# EAGLE library part TLV493DA1B6HTSA2 (library REEF_LIB)
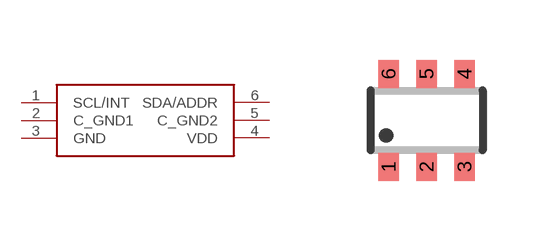
[diagram p7: symbol with the pads of TSOP-6.PAC; footprint TSOP-6.PAC]

Designator prefix -

## TLV493DA1B6HTSA2  [TSOP-6.PAC]
1  SCL/INT
2  C_GND1
3  GND
4  VDD
5  C_GND2
6  SDA/ADDR

## Footprint TSOP-6.PAC (pad centres in mm)
TSOP-6 Source: http://www.vishay.com/docs/72105/72105.pdf
smd 0.508 x 0.7: 1 -0.95,-1.163; 2 0,-1.163; 3 0.95,-1.163; 4 0.95,1.163; 5 0,1.163; 6 -0.95,1.163